# Altium footprint library Connectors.PcbLib: 94 footprints (part 2 of 6)
Each footprint in its own frame and in the unit in brackets; x right, y up, seen from the top. Pads: shape width x height; smd on the part's side, far side on the other; paste and mask are expansions set on the pad; w line width, h text height; cw(c..) or ccw(c..) is an arc to the next point about the centre after c.
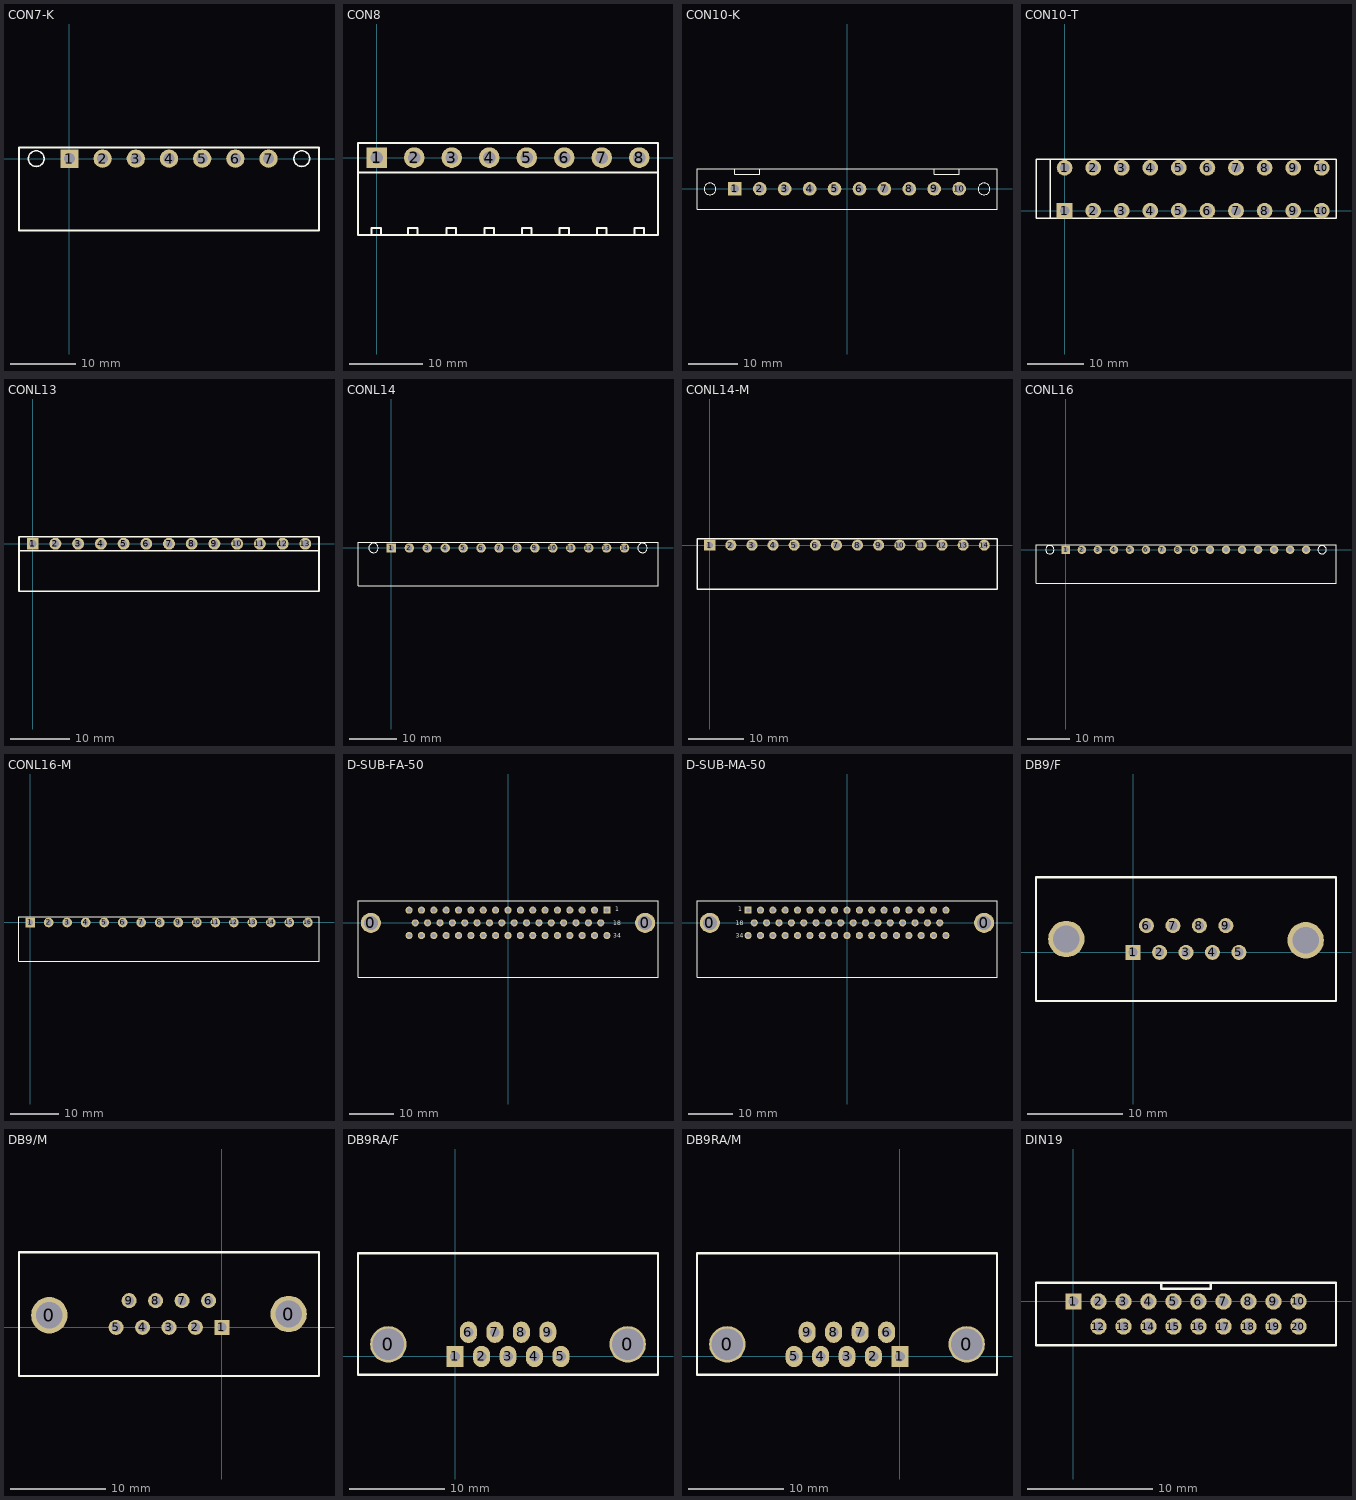
[diagram p1: the footprints below, top view; thin cyan lines are the x and y axes]

## CON7-K [mm] "connector ,7Pin,5.08mm"
pads (7):
  rect 2.8x2.8 hole 1.7: 1(0,0)
  round 2.8 hole 1.7: 2(5.08,0) 3(10.16,0) 4(15.24,0) 5(20.32,0) 6(25.4,0) 7(30.48,0)
Top Overlay:
  circle w0.254: c35.56,0 r1.2
  circle w0.254: c-5.08,0 r1.2
  lines w0.254: -7.72,-11 38.2,-11 38.2,1.7 -7.72,1.7 -7.72,-11

## CON8 [mm] "connector ,8Pin,5.08mm"
pads (8):
  rect 2.8x2.8 hole 1.7: 1(0,0)
  round 2.8 hole 1.7: 2(5.08,0) 3(10.16,0) 4(15.24,0) 5(20.32,0) 6(25.4,0) 7(30.48,0) 8(35.56,0)
Top Overlay:
  lines w0.254: -2.54,-2.032 38.1,-2.032 ; -0.715,-10.5 -0.715,-9.525 0.555,-9.525 0.555,-10.5 ; 4.238,-10.5 4.238,-9.525 5.508,-9.525 5.508,-10.5 ; 9.445,-10.5 9.445,-9.525 10.715,-9.525 10.715,-10.5 ; 14.605,-10.5 14.605,-9.525 15.875,-9.525 15.875,-10.5 ; 19.685,-10.5 19.685,-9.525 20.955,-9.525 20.955,-10.5 ; 24.765,-10.5 24.765,-9.525 26.035,-9.525 26.035,-10.5 ; 29.845,-10.5 29.845,-9.525 31.115,-9.525 31.115,-10.5 ; 34.925,-10.5 34.925,-9.525 36.195,-9.525 36.195,-10.5 ; -2.54,-10.5 -2.54,2 38.1,2 38.1,-10.5 -2.54,-10.5

## CON10-K [mm] "connector ,2Pin,5.08mm"
pads (10):
  rect 2.8x2.8 hole 1.7: 1(-22.86,0)
  round 2.8 hole 1.7: 2(-17.78,0) 3(-12.7,0) 4(-7.62,0) 5(-2.54,0) 6(2.54,0) 7(7.62,0) 8(12.7,0) 9(17.78,0) 10(22.86,0)
Top Overlay:
  circle w0.254: c-27.94,0 r1.2
  circle w0.254: c27.94,0 r1.2
  lines w0.254: -22.86,4.1 -22.86,3 -17.78,3 -17.78,4.1 ; 17.78,4.1 17.78,3 22.86,3 22.86,4.1 ; -30.58,-4.15 -30.58,4.1 30.58,4.1 30.58,-4.15 -30.58,-4.15

## CON10-T [mm] "connector ,2Pin,5.08mm"
pads (20):
  rect 2.8x2.8 hole 1.7: 1(0,0)
  round 2.8 hole 1.7: 1(0,7.62) 2(5.08,0) 2(5.08,7.62) 3(10.16,0) 3(10.16,7.62) 4(15.24,0) 4(15.24,7.62) 5(20.32,0) 5(20.32,7.62) 6(25.4,0) 6(25.4,7.62) 7(30.48,0) 7(30.48,7.62) 8(35.56,0) 8(35.56,7.62) 9(40.64,0) 9(40.64,7.62) 10(45.72,0) 10(45.72,7.62)
Top Overlay:
  lines w0.254: -2.54,-1.38 -2.54,9.12 ; -5.08,-1.38 48.26,-1.38 48.26,9.12 -5.08,9.12 -5.08,-1.38

## CONL13 [mm] "connector ,8Pin,5.08mm"
pads (13):
  rect 2x2 hole 1.2: 1(0,0)
  round 2 hole 1.2: 2(3.81,0) 3(7.62,0) 4(11.43,0) 5(15.24,0) 6(19.05,0) 7(22.86,0) 8(26.67,0) 9(30.48,0) 10(34.29,0) 11(38.1,0) 12(41.91,0) 13(45.72,0)
Top Overlay:
  lines w0.254: -2.3,-1.2 48.02,-1.2 ; -2.3,-8 -2.3,1.2 48.02,1.2 48.02,-8 -2.3,-8

## CONL14 [mm] "connector ,14Pin,3.81mm"
pads (14):
  rect 2x2 hole 1.2: 1(0,0)
  round 2 hole 1.2: 2(3.81,0) 3(7.62,0) 4(11.43,0) 5(15.24,0) 6(19.05,0) 7(22.86,0) 8(26.67,0) 9(30.48,0) 10(34.29,0) 11(38.1,0) 12(41.91,0) 13(45.72,0) 14(49.53,0)
Top Overlay:
  circle w0.254: c53.34,0 r1
  circle w0.254: c-3.81,0 r1
  lines w0.254: -7.1,-8 56.63,-8 56.63,1.2 -7.1,1.2 -7.1,-8

## CONL14-M [mm] "connector ,14Pin,3.81mm"
pads (14):
  rect 2x2 hole 1.2: 1(0,0)
  round 2 hole 1.2: 2(3.81,0) 3(7.62,0) 4(11.43,0) 5(15.24,0) 6(19.05,0) 7(22.86,0) 8(26.67,0) 9(30.48,0) 10(34.29,0) 11(38.1,0) 12(41.91,0) 13(45.72,0) 14(49.53,0)
Top Overlay:
  lines w0.254: -2.3,-8 -2.3,1.2 51.83,1.2 51.83,-8 -2.3,-8

## CONL16 [mm] "connector ,16Pin,3.81mm"
pads (16):
  rect 2x2 hole 1.2: 1(0,0)
  round 2 hole 1.2: 2(3.81,0) 3(7.62,0) 4(11.43,0) 5(15.24,0) 6(19.05,0) 7(22.86,0) 8(26.67,0) 9(30.48,0) 10(34.29,0) 11(38.1,0) 12(41.91,0) 13(45.72,0) 14(49.53,0) 15(53.34,0) 16(57.15,0)
Top Overlay:
  circle w0.254: c-3.81,0 r1
  circle w0.254: c60.96,0 r1
  lines w0.254: -7.1,-8 -7.1,1.2 64.25,1.2 64.25,-8 -7.1,-8

## CONL16-M [mm] "connector ,16Pin,3.81mm"
pads (16):
  rect 2x2 hole 1.2: 1(0,0)
  round 2 hole 1.2: 2(3.81,0) 3(7.62,0) 4(11.43,0) 5(15.24,0) 6(19.05,0) 7(22.86,0) 8(26.67,0) 9(30.48,0) 10(34.29,0) 11(38.1,0) 12(41.91,0) 13(45.72,0) 14(49.53,0) 15(53.34,0) 16(57.15,0)
Top Overlay:
  lines w0.254: -2.3,-8 -2.3,1.2 59.45,1.2 59.45,-8 -2.3,-8

## D-SUB-FA-50 [mm]
pads (52):
  round 4.5 hole 3.1: 0(-30.71,0) 0(30.71,0)
  rect 1.6x1.6 hole 1: 1(22.16,2.84)
  round 1.6 hole 1: 2(19.39,2.84) 3(16.62,2.84) 4(13.85,2.84) 5(11.08,2.84) 6(8.31,2.84) 7(5.54,2.84) 8(2.77,2.84) 9(0,2.84) 10(-2.77,2.84) 11(-5.54,2.84) 12(-8.31,2.84) 13(-11.08,2.84) 14(-13.85,2.84) 15(-16.62,2.84) 16(-19.39,2.84) 17(-22.16,2.84) 18(20.775,0) 19(18.005,0) 20(15.235,0) 21(12.465,0) 22(9.695,0) 23(6.925,0) 24(4.155,0) 25(1.385,0) 26(-1.385,0) 27(-4.155,0) 28(-6.925,0) 29(-9.695,0) 30(-12.465,0) 31(-15.235,0) 32(-18.005,0) 33(-20.775,0) 34(22.16,-2.84) 35(19.39,-2.84) 36(16.62,-2.84) 37(13.85,-2.84) 38(11.08,-2.84) 39(8.31,-2.84) 40(5.54,-2.84) 41(2.77,-2.84) 42(0,-2.84) 43(-2.77,-2.84) 44(-5.54,-2.84) 45(-8.31,-2.84) 46(-11.08,-2.84) 47(-13.85,-2.84) 48(-16.62,-2.84) 49(-19.39,-2.84) 50(-22.16,-2.84)
Top Overlay:
  lines w0.254: -33.6,-12.24 -33.6,5 33.6,5 33.6,-12.24 -33.6,-12.24
  text "34" at 23.622,-3.302 h1
  text "18" at 23.622,-0.508 h1
  text "1" at 24.003,2.54 h1

## D-SUB-MA-50 [mm]
pads (52):
  round 4.5 hole 3.1: 0(-30.71,0) 0(30.71,0)
  rect 1.6x1.6 hole 1: 1(-22.16,2.84)
  round 1.6 hole 1: 2(-19.39,2.84) 3(-16.62,2.84) 4(-13.85,2.84) 5(-11.08,2.84) 6(-8.31,2.84) 7(-5.54,2.84) 8(-2.77,2.84) 9(0,2.84) 10(2.77,2.84) 11(5.54,2.84) 12(8.31,2.84) 13(11.08,2.84) 14(13.85,2.84) 15(16.62,2.84) 16(19.39,2.84) 17(22.16,2.84) 18(-20.775,0) 19(-18.005,0) 20(-15.235,0) 21(-12.465,0) 22(-9.695,0) 23(-6.925,0) 24(-4.155,0) 25(-1.385,0) 26(1.385,0) 27(4.155,0) 28(6.925,0) 29(9.695,0) 30(12.465,0) 31(15.235,0) 32(18.005,0) 33(20.775,0) 34(-22.16,-2.84) 35(-19.39,-2.84) 36(-16.62,-2.84) 37(-13.85,-2.84) 38(-11.08,-2.84) 39(-8.31,-2.84) 40(-5.54,-2.84) 41(-2.77,-2.84) 42(0,-2.84) 43(2.77,-2.84) 44(5.54,-2.84) 45(8.31,-2.84) 46(11.08,-2.84) 47(13.85,-2.84) 48(16.62,-2.84) 49(19.39,-2.84) 50(22.16,-2.84)
Top Overlay:
  lines w0.254: -33.6,-12.24 33.6,-12.24 33.6,5 -33.6,5 -33.6,-12.24
  text "1" at -24.384,2.54 h1
  text "18" at -24.892,-0.508 h1
  text "34" at -24.892,-3.302 h1

## DB9/F [mil]
pads (11):
  rect 62x62 hole 38: 1(0,0)
  round 62 hole 38: 2(109,0) 3(218,0) 4(327,0) 5(436,0) 6(55,110) 7(164,110) 8(273,110) 9(382,110)
  round 150 hole 110: ""(-275,55) ""(711,50)
Top Overlay:
  lines w8: -400,-200 836,-200 836,310
  lines w10: -400,-200 -400,310 836,310

## DB9/M [mil]
pads (11):
  round 150 hole 110: 0(-711,50) 0(275,55)
  rect 62x62 hole 38: 1(0,0)
  round 62 hole 38: 2(-109,0) 3(-218,0) 4(-327,0) 5(-436,0) 6(-55,110) 7(-164,110) 8(-273,110) 9(-382,110)
Top Overlay:
  lines w8: -836,310 -836,-200 400,-200
  lines w10: -836,310 400,310 400,-200

## DB9RA/F [mil] "DB9RA/M FEMALE"
pads (11):
  round 150 hole 130: 0(-275,50) 0(711,50)
  rect 70x88 hole 40: 1(0,0)
  oval 70x88 hole 40: 2(109,0) 3(218,0) 4(327,0) 5(436,0) 6(55,100) 7(164,100) 8(273,100) 9(382,100)
Top Overlay:
  lines w10: -400,-75 -400,425 836,425 836,-75 -400,-75

## DB9RA/M [mil] "DB9RA/M MALE"
pads (11):
  round 150 hole 130: 0(-711,49.72) 0(275,49.72)
  rect 70x88 hole 40: 1(0,-0.28)
  oval 70x88 hole 40: 2(-109,-0.28) 3(-218,-0.28) 4(-327,-0.28) 5(-436,-0.28) 6(-55,99.72) 7(-164,99.72) 8(-273,99.72) 9(-382,99.72)
Top Overlay:
  lines w10: -836,-75.28 -836,424.72 400,424.72 400,-75.28 -836,-75.28

## DIN19 [mm]
pads (19):
  rect 1.3x1.3 hole 0.8: 1(0,0)
  round 1.3 hole 0.8: 2(2,0) 3(4,0) 4(6,0) 5(8,0) 6(10,0) 7(12,0) 8(14,0) 9(16,0) 10(18,0) 12(2,-2) 13(4,-2) 14(6,-2) 15(8,-2) 16(10,-2) 17(12,-2) 18(14,-2) 19(16,-2) 20(18,-2)
Top Overlay:
  lines w0.2: 7,1.5 7,1 11,1 11,1.5 ; -3,-3.5 21,-3.5 21,1.5 -3,1.5 -3,-3.5